# Altium footprint library A_Semi.PcbLib: 47 footprints (part 1 of 3)
Each footprint in its own frame and in the unit in brackets; x right, y up, seen from the top. Pads: shape width x height; smd on the part's side, far side on the other; paste and mask are expansions set on the pad; w line width, h text height; cw(c..) or ccw(c..) is an arc to the next point about the centre after c.
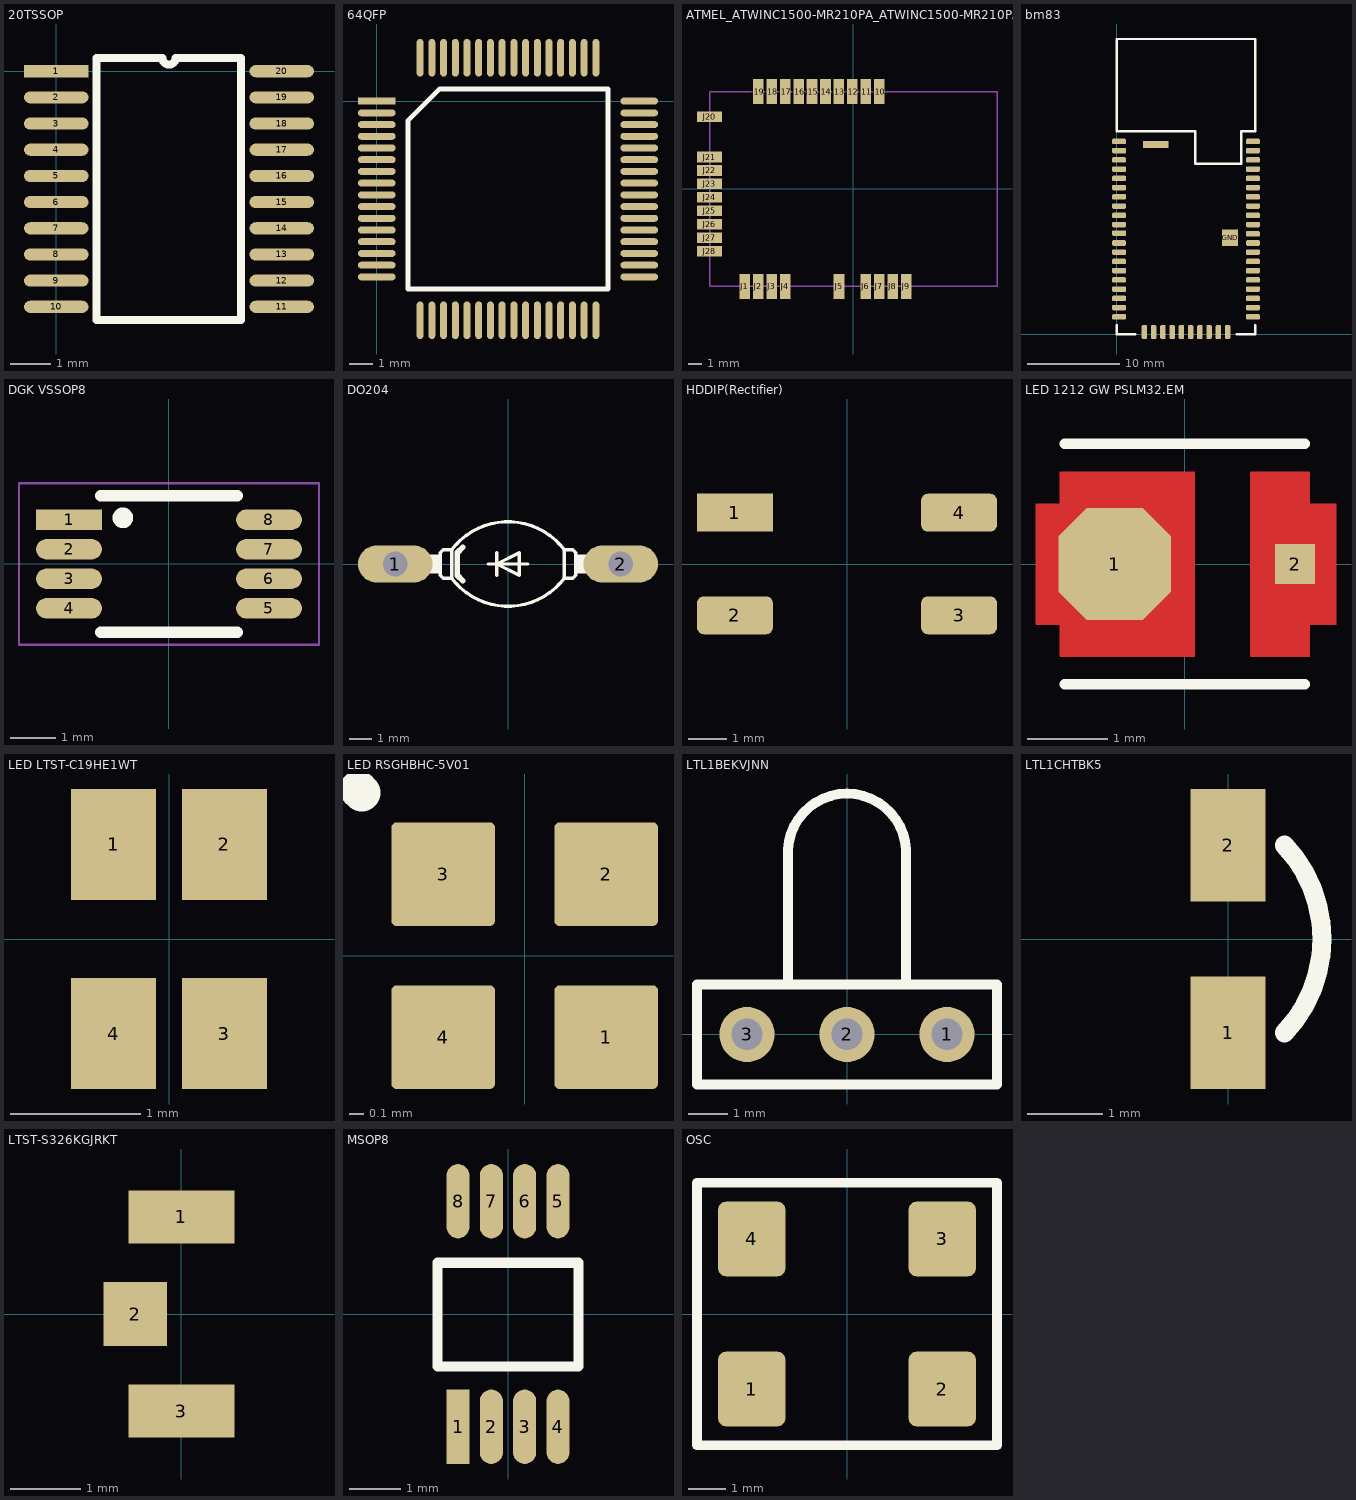
[diagram p0: the footprints below, top view; thin cyan lines are the x and y axes]

## 20TSSOP [mm]
pads (20):
  rect 1.6x0.3 smd: 1(0,0)
  oval 1.6x0.3 smd: 2(0,-0.65) 3(0,-1.3) 4(0,-1.95) 5(0,-2.6) 6(0,-3.25) 7(0,-3.9) 8(0,-4.55) 9(0,-5.2) 10(0,-5.85) 11(5.6,-5.85) 12(5.6,-5.2) 13(5.6,-4.55) 14(5.6,-3.9) 15(5.6,-3.25) 16(5.6,-2.6) 17(5.6,-1.95) 18(5.6,-1.3) 19(5.6,-0.65) 20(5.6,0)
Top Overlay:
  lines w0.2: 1,-6.175 4.59,-6.175 4.59,0.325 2.962,0.325 cw(c2.8,0.325) 2.638,0.325 1,0.325 1,-6.175

## 64QFP [mm]
pads (64):
  rect 1.6x0.3 smd: 1(0,0)
  oval 1.6x0.3 smd: 2(0,-0.5) 3(0,-1) 4(0,-1.5) 5(0,-2) 6(0,-2.5) 7(0,-3) 8(0,-3.5) 9(0,-4) 10(0,-4.5) 11(0,-5) 12(0,-5.5) 13(0,-6) 14(0,-6.5) 15(0,-7) 16(0,-7.5) 33(11.2,-7.5) 34(11.2,-7) 35(11.2,-6.5) 36(11.2,-6) 37(11.2,-5.5) 38(11.2,-5) 39(11.2,-4.5) 40(11.2,-4) 41(11.2,-3.5) 42(11.2,-3) 43(11.2,-2.5) 44(11.2,-2) 45(11.2,-1.5) 46(11.2,-1) 47(11.2,-0.5) 48(11.2,0)
  oval 0.3x1.6 smd: 17(1.85,-9.35) 18(2.35,-9.35) 19(2.85,-9.35) 20(3.35,-9.35) 21(3.85,-9.35) 22(4.35,-9.35) 23(4.85,-9.35) 24(5.35,-9.35) 25(5.85,-9.35) 26(6.35,-9.35) 27(6.85,-9.35) 28(7.35,-9.35) 29(7.85,-9.35) 30(8.35,-9.35) 31(8.85,-9.35) 32(9.35,-9.35) 49(9.35,1.85) 50(8.85,1.85) 51(8.35,1.85) 52(7.85,1.85) 53(7.35,1.85) 54(6.85,1.85) 55(6.35,1.85) 56(5.85,1.85) 57(5.35,1.85) 58(4.85,1.85) 59(4.35,1.85) 60(3.85,1.85) 61(3.35,1.85) 62(2.85,1.85) 63(2.35,1.85) 64(1.85,1.85)
Top Overlay:
  lines w0.2: 1.335,-8.015 9.865,-8.015 9.865,0.515 2.67,0.515 1.335,-0.82 1.335,-8.015
3D body "User Library-TQFP64-2.STEP": height 1.21, standoff 0.01, extent -0.5,-9.825 11.7,2.375

## ATMEL_ATWINC1500-MR210PA_ATWINC1500-MR210PA [mm]
pads (28):
  rect 0.8x1.9 smd: J1(-8.189,-7.368) J2(-7.173,-7.368) J3(-6.157,-7.368) J4(-5.141,-7.368) J5(-1.077,-7.368) J6(0.955,-7.368) J7(1.971,-7.368) J8(2.987,-7.368) J9(4.003,-7.368) J10(1.962,7.362) J11(0.946,7.362) J12(-0.07,7.362) J13(-1.086,7.362) J14(-2.102,7.362) J15(-3.118,7.362) J16(-4.134,7.362) J17(-5.15,7.362) J18(-6.166,7.362) J19(-7.182,7.362)
  rect 1.9x0.8 smd: J20(-10.861,5.462) J21(-10.861,2.414) J22(-10.861,1.398) J23(-10.861,0.382) J24(-10.861,-0.634) J25(-10.861,-1.65) J26(-10.861,-2.666) J27(-10.861,-3.682) J28(-10.861,-4.698)
Mechanical 4:
  lines w0.1: -10.86,-7.365 -10.86,7.365 ; -10.86,-7.365 10.86,-7.365 ; -10.86,-7.365 -10.86,7.365 ; -10.86,-7.365 10.86,-7.365 ; -10.86,7.365 10.86,7.365 ; -10.86,7.365 10.86,7.365 ; 10.86,-7.365 10.86,7.365 ; 10.86,-7.365 10.86,7.365

## bm83 [mm]
pads (52):
  rrect50% 1.5x0.6 smd: 1(0.25,20.9) 2(0.25,19.9) 3(0.25,18.9) 4(0.25,17.9) 5(0.25,16.9) 6(0.25,15.9) 7(0.25,14.9) 8(0.25,13.9) 9(0.25,12.9) 10(0.25,11.9) 11(0.25,10.96) 12(0.25,9.9) 13(0.25,8.9) 14(0.25,7.9) 15(0.25,6.9) 16(0.25,5.9) 17(0.25,4.9) 18(0.25,3.9) 19(0.25,2.9) 20(0.25,1.9) 31(14.75,1.9) 32(14.75,2.9) 33(14.75,3.9) 34(14.75,4.9) 35(14.75,5.9) 36(14.75,6.9) 37(14.75,7.9) 38(14.75,8.9) 39(14.75,9.9) 40(14.75,10.9) 41(14.75,11.9) 42(14.75,12.9) 43(14.75,13.9) 44(14.75,14.9) 45(14.75,15.9) 46(14.75,16.9) 47(14.75,17.9) 48(14.75,18.9) 49(14.75,19.9) 50(14.75,20.9)
  rrect50% 0.6x1.5 smd: 21(3,0.25) 22(4,0.25) 23(5,0.25) 24(6,0.25) 25(7,0.25) 26(8,0.25) 27(9,0.25) 28(10,0.25) 29(11,0.25) 30(12,0.25)
  rect 2.79x0.76 smd: GND(4.21,20.58)
  rect 1.78x1.78 smd: GND(12.27,10.47)
Top Overlay:
  lines w0.254: 0,1 0,0 2,0 ; 13,0 15,0 15,1 ; 0,22 8.5,22 8.5,18.5 13.5,18.5 13.5,22 15,22 15,32 0,32 0,22

## DGK VSSOP8 [mm]
pads (8):
  rect 1.45x0.45 smd: 1(-2.2,0.975)
  oval 1.45x0.45 smd: 2(-2.2,0.325) 3(-2.2,-0.325) 4(-2.2,-0.975) 5(2.2,-0.975) 6(2.2,-0.325) 7(2.2,0.325) 8(2.2,0.975)
Top Overlay:
  circle w0.254: c-1.016,1.016 r0.1
  lines w0.254: -1.5,-1.5 1.5,-1.5 ; -1.5,1.5 1.5,1.5
Mechanical 15:
  lines w0.05: -3.302,-1.778 -3.302,1.778 3.302,1.778 3.302,-1.778 -3.302,-1.778
3D body "User Library-S-PDSO-G8.STEP": height 0.94, standoff -0.02, extent -2.451,-1.499 2.451,1.498

## DO204 [mil]
pads (2):
  oval 132x66 hole 44: 1(-200,0) 2(200,0)
Top Overlay:
  region: -142.21,16 -120,16 -120,-16.02 -142.21,-16.02
  region: 120.18,16 142,16 142,-16.02 120.18,-16.02
  lines w6: -99.83,-25.23 ccw(c0,50) 99.83,-25.23 ; -99.83,25.23 cw(c0,-50) 99.83,25.23 ; -35,0 -20,0 ; -20,-20 -20,0 ; -20,20 -20,0 ; 35,0 -20,0 ; -20,0 20,20 20,-20 -20,0 ; -120,-20 -120,20 -115,25 -100,25 -100,-25 -115,-25 -120,-20 ; 100,-25 115,-25 120,-20 120,20 115,25 100,25 100,-25
  lines w10: -80,-30 -90,-20 -90,20 -80,30
Mechanical 4:
  lines w10: -200,0 -145,0 -200,0 ; 145,0 200,0 145,0

## HDDIP(Rectifier) [mm]
pads (4):
  rect 2x1 smd: 1(-2.95,1.35)
  rrect35% 2x1 smd: 2(-2.95,-1.35) 3(2.95,-1.35) 4(2.95,1.35)

## LED 1212 GW PSLM32.EM [mm] "LED DURIS S5 COOL WHT 6500K SMD"
pads (2):
  oct 1.4x1.4 smd paste+0: 1(-0.875,0)
  rect 0.5x0.5 smd paste+0: 2(1.375,0)
Top Layer:
  region: -1.855,-0.75 -1.855,0.75 -1.555,0.75 -1.555,1.15 0.125,1.15 0.125,-1.15 -1.555,-1.15 -1.555,-0.75
  region: 0.825,-1.15 0.825,1.15 1.555,1.15 1.555,0.75 1.885,0.75 1.885,-0.75 1.555,-0.75 1.555,-1.15
  lines w0.005: -1.855,-0.75 -1.555,-0.75 -1.555,-1.15 0.125,-1.15 0.125,1.15 -1.555,1.15 -1.555,0.75 -1.855,0.75 -1.855,-0.75 ; 0.825,-1.15 0.825,1.15 1.555,1.15 1.555,0.75 1.885,0.75 1.885,-0.75 1.855,-0.75 1.555,-0.75 1.555,-1.15 0.825,-1.15
Top Overlay:
  lines w0.127: -1.5,-1.5 1.5,-1.5 ; -1.5,1.5 1.5,1.5
3D body: height 1, standoff 0, extent -1.5,-1.5 1.5,1.5

## LED LTST-C19HE1WT [mm]
pads (4):
  rect 0.65x0.85 smd: 1(-0.425,0.725) 2(0.425,0.725) 3(0.425,-0.725) 4(-0.425,-0.725)

## LED RSGHBHC-5V01 [mm]
pads (4):
  rrect10% 0.7x0.7 smd: 1(0.55,-0.55) 2(0.55,0.55) 3(-0.55,0.55) 4(-0.55,-0.55)
Top Overlay:
  lines w0.254: -1.125,1.125 -1.1,1.1

## LQFP176 [mm]

## LTL1BEKVJNN [mm] "Common Cathode R/G LED"
pads (3):
  round 1.4 hole 0.8: 1(2.54,0) 2(0,0) 3(-2.54,0)
Top Overlay:
  lines w0.254: -1.5,1.27 -1.5,4.7 cw(c0,4.615) 1.5,4.7 1.5,1.27 ; -3.81,-1.27 3.81,-1.27 3.81,1.27 -3.81,1.27 -3.81,-1.27

## LTL1CHTBK5 [mm]
pads (2):
  rect 1x1.5 smd: 1(0,-1.25) 2(0,1.25)
Top Overlay:
  lines w0.254: 0.75,-1.25 ccw(c-0.562,0) 0.75,1.25

## LTST-S326KGJRKT [mm]
pads (3):
  rect 1.5x0.75 smd: 1(0,1.375) 3(0,-1.375)
  rect 0.9x0.9 smd: 2(-0.65,0)
3D body "APBA3010.STEP": height 1, standoff 0, extent -0.51,-1.5 1.5,1.5

## MSOP8 [mm]
pads (8):
  rect 0.45x1.45 smd: 1(-0.975,-2.2)
  oval 0.45x1.45 smd: 2(-0.325,-2.2) 3(0.325,-2.2) 4(0.975,-2.2) 5(0.975,2.2) 6(0.325,2.2) 7(-0.325,2.2) 8(-0.975,2.2)
Top Overlay:
  lines w0.2: -1.375,-1.025 -1.375,1 1.375,1 1.375,-1.025 -1.375,-1.025
3D body "User Library-EMSOP-8 Natl Semi MUY08A.STEP": height 1.09, standoff -0.01, extent -1.5,-2.5 1.5,2.5

## OSC [mm]
pads (4):
  rrect25% 1.8x2 smd: 1(-2.54,-2) 2(2.54,-2) 3(2.54,2) 4(-2.54,2)
Top Overlay:
  lines w0.254: -4,-3.5 -4,3.5 4,3.5 4,-3.5 -4,-3.5